# Altium footprint library LED-XTAL.PCBLIB: 105 footprints (part 6 of 7)
Each footprint in its own frame and in the unit in brackets; x right, y up, seen from the top. Pads: shape width x height; smd on the part's side, far side on the other; paste and mask are expansions set on the pad; w line width, h text height; cw(c..) or ccw(c..) is an arc to the next point about the centre after c.
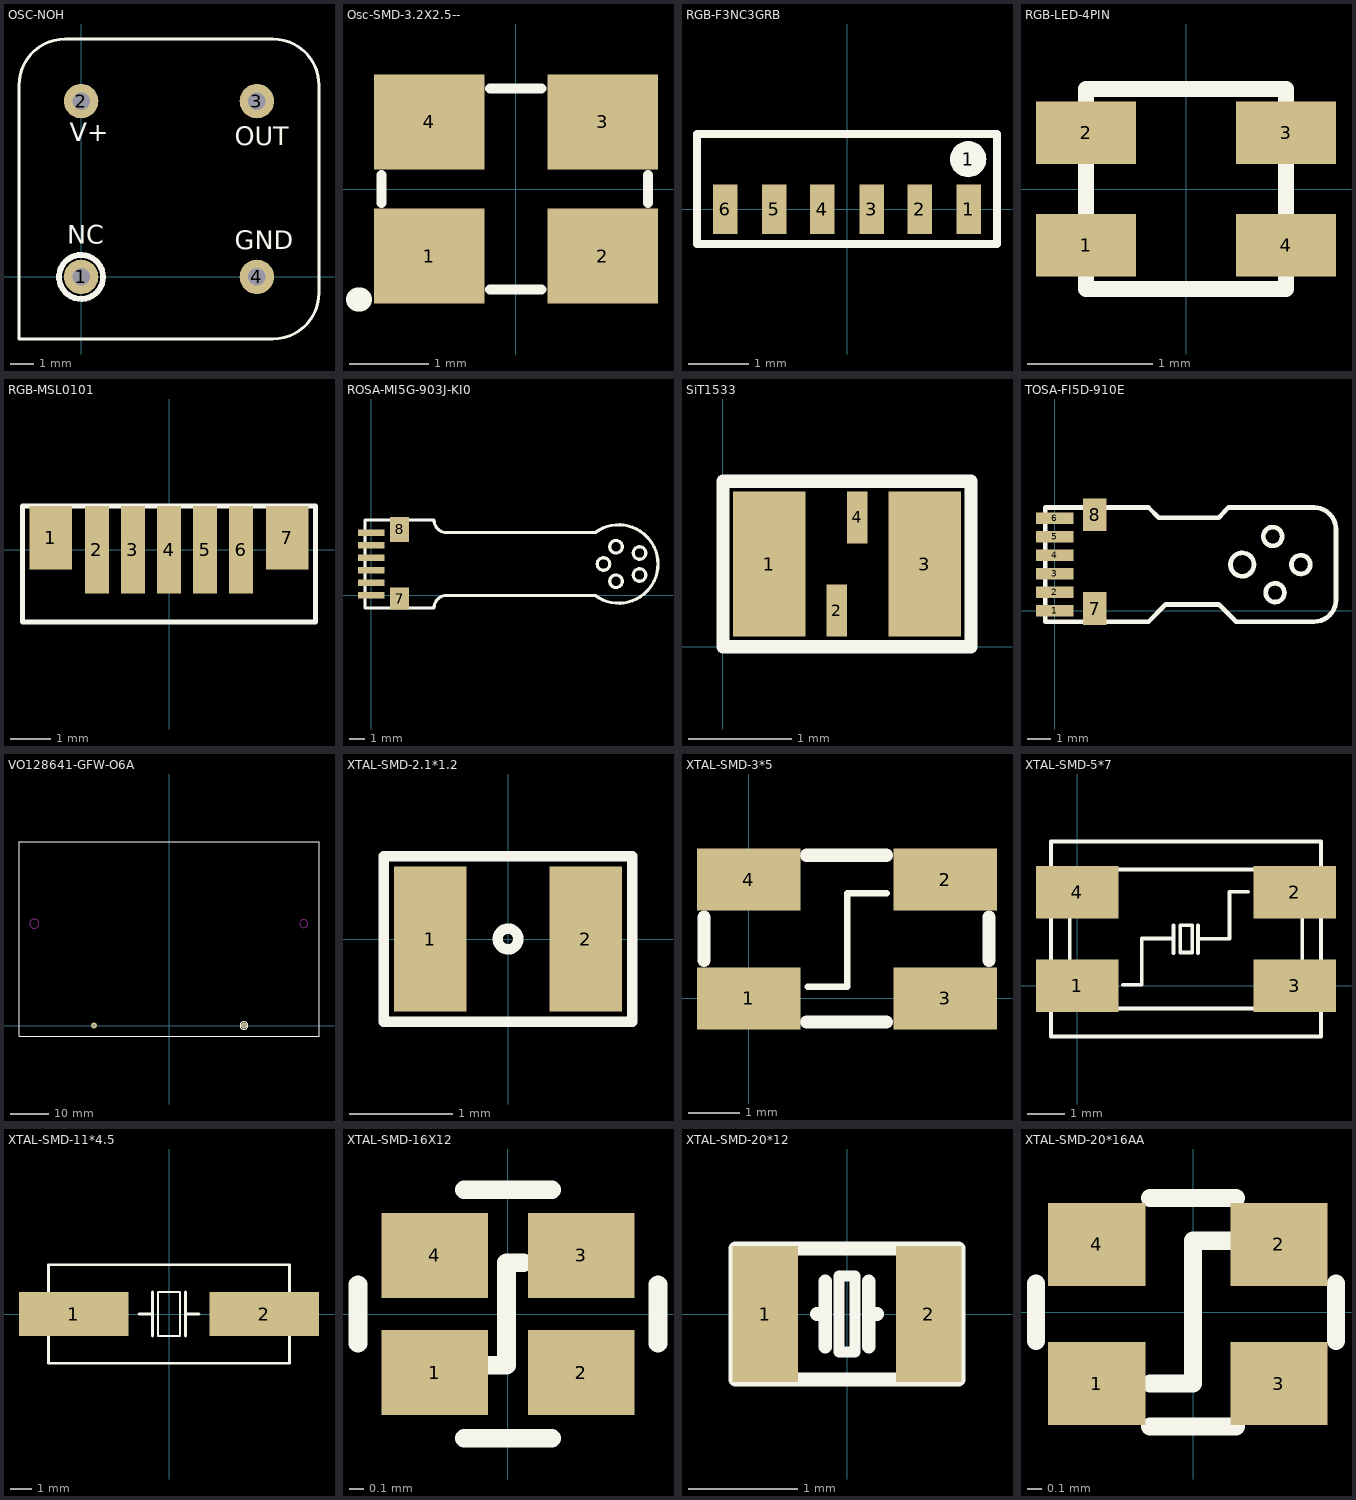
[diagram p5: the footprints below, top view; thin cyan lines are the x and y axes]

## OSC-NOH [mm]
pads (4):
  round 1.5 hole 0.762: 1(0,0) 2(0,7.62) 3(7.62,7.62) 4(7.62,0)
TopOverlay:
  circle w0.254: c0,0 r0.954
  lines w0.127: -2.69,-2.69 -2.69,8.31 cw(c-0.69,8.31) -0.69,10.31 8.31,10.31 cw(c8.31,8.31) 10.31,8.31 10.31,-0.69 cw(c8.31,-0.69) 8.31,-2.69 -2.69,-2.69
  text "V+" at -0.49,5.885 h0.8
  text "NC" at -0.59,1.435 h0.8
  text "GND" at 6.66,1.21 h0.8
  text "OUT" at 6.66,5.71 h0.8

## Osc-SMD-3.2X2.5-- [mm] "Osc-SMD-3.2X2.5--"
pads (4):
  rect 1.4x1.2 smd: 1(-1.1,-0.85) 2(1.1,-0.85) 3(1.1,0.85) 4(-1.1,0.85)
TopOverlay:
  lines w0.127: -1.7,-0.175 -1.7,0.175 ; -0.325,-1.275 0.325,-1.275 ; -0.325,1.275 0.325,1.275 ; 1.675,-0.175 1.675,0.175
  lines w0.3: -2,-1.4 -1.975,-1.4

## RGB-F3NC3GRB [mm] "RGB-F3NC3GRB"
pads (7):
  round 0.6 on Top Overlay: 1(2,0.825)
  rect 0.4x0.82 smd: 1(2.01,0) 2(1.2,0) 3(0.41,0) 4(-0.41,0) 5(-1.2,0) 6(-2.01,0)
TopOverlay:
  lines w0.127: -2.475,-0.575 -2.475,1.24 2.475,1.24 2.475,-0.575 -2.475,-0.575

## RGB-LED-4PIN [mm] "RGB-LED-4PIN"
pads (4):
  rect 0.8x0.5 smd: 1(-0.8,-0.45) 2(-0.8,0.45) 3(0.8,0.45) 4(0.8,-0.45)
TopOverlay:
  lines w0.127: -0.8,-0.8 -0.8,0.8 0.8,0.8 0.8,-0.8 -0.8,-0.8

## RGB-MSL0101 [mm] "RGB-MSL0101"
pads (7):
  rect 1.06x1.58 smd: 1(-2.95,0.3) 7(2.95,0.3)
  rect 0.6x2.18 smd: 2(-1.8,0) 3(-0.9,0) 4(0,0) 5(0.9,0) 6(1.8,0)
TopOverlay:
  lines w0.127: -3.65,-1.8 -3.65,1.1 3.65,1.1 3.65,-1.8 -3.65,-1.8

## ROSA-MI5G-903J-KI0 [mm]
pads (8):
  rect 1.7x0.4 smd: 1(0,0) 2(0,0.8) 3(0,1.6) 4(0,2.4) 5(0,3.2) 6(0,4)
  rect 1.2x1.4 smd: 7(1.8,-0.2)
  rect 1.2x1.6 smd: 8(1.8,4.2)
TopOverlay:
  circle w0.2: c15.6,3.1 r0.4
  circle w0.2: c17.1,1.3 r0.4
  circle w0.2: c17.1,2.7 r0.4
  circle w0.2: c15.6,0.9 r0.4
  circle w0.2: c14.8,2 r0.4
  lines w0.2: 14.292,-0.011 ccw(c15.778,2) 14.292,4.011 ; 14.3,0 4.8,0 ccw(c4.8,-0.8) 4,-0.8 -0.4,-0.8 -0.4,4.8 4,4.8 ccw(c4.8,4.8) 4.8,4 14.3,4

## SiT1533 [mm] "SiT1533"
pads (4):
  rect 0.7x1.4 smd: 1(0.45,0.8) 3(1.95,0.8)
  rect 0.2x0.5 smd: 2(1.1,0.35) 4(1.3,1.25)
TopOverlay:
  lines w0.127: 0,0 0,1.6 2.4,1.6 2.4,0 0,0

## TOSA-FI5D-910E [mm]
pads (8):
  rect 1.6x0.5 smd: 1(0,0) 2(0,0.79) 3(0,1.58) 4(0,2.37) 5(0,3.16) 6(0,3.95)
  rect 1x1.4 smd: 7(1.7,0.1) 8(1.7,4.1)
TopOverlay:
  circle w0.2: c9.3,3.175 r0.4
  circle w0.2: c9.4,0.775 r0.4
  circle w0.2: c8,1.975 r0.5
  circle w0.2: c10.5,1.975 r0.4
  lines w0.2: -0.4,-0.46 4,-0.46 4.735,0.275 7,0.275 7.735,-0.46 11,-0.46 11.065,-0.46 ccw(c11.065,0.475) 12,0.475 12,3.475 ccw(c11.065,3.475) 11.065,4.41 11,4.41 7.4,4.41 7,3.975 4.435,3.975 4,4.41 -0.4,4.41 -0.4,-0.46

## VO128641-GFW-O6A [mm]
pads (2):
  round 1.5 hole 0.8: 1(19.5,0) 2(-19.5,0)
TopOverlay:
  circle w0.254: c19.5,0 r1
  lines w0.127: -39,-2.75 39,-2.75 39,47.75 -39,47.75 -39,-2.75
KeepOutLayer:
  circle w0.127: c-35,26.5 r1.2
  circle w0.127: c35,26.5 r1.03

## XTAL-SMD-2.1*1.2 [mm] "XTAL-SMD-2.1*1.2"
pads (2):
  rect 0.7x1.4 smd: 1(-0.75,0) 2(0.75,0)
TopOverlay:
  circle w0.1: c0,0 r0.1
  lines w0.1: -1.2,-0.8 1.2,-0.8 1.2,0.8 -1.2,0.8 -1.2,-0.8

## XTAL-SMD-3*5 [mm]
pads (4):
  rect 2x1.2 smd: 1(0,0) 2(3.8,2.3) 3(3.8,0) 4(0,2.3)
TopOverlay:
  lines w0.128: 1.143,0.229 1.905,0.229 1.905,2.032 2.667,2.032
  lines w0.254: -0.864,0.737 -0.864,1.575 ; 1.118,-0.457 2.667,-0.457 ; 1.118,2.769 2.667,2.769 ; 4.648,0.737 4.648,1.575

## XTAL-SMD-5*7 [mm]
pads (4):
  rect 2.2x1.4 smd: 1(0,0) 2(5.8,2.5) 3(5.8,0) 4(0,2.5)
TopOverlay:
  lines w0.1: 1.219,0.029 1.717,0.029 1.717,1.265 2.558,1.265 ; 2.569,0.877 2.569,1.608 ; 3.211,1.253 4.063,1.253 4.063,2.507 4.557,2.507 ; 3.222,0.877 3.222,1.608 ; -0.7,-1.35 6.5,-1.35 6.5,3.85 -0.7,3.85 -0.7,-1.35 ; -0.2,-0.6 -0.2,3.1 6,3.1 6,-0.6 -0.2,-0.6 ; 2.746,0.888 2.746,1.619 3.067,1.619 3.067,0.888 2.746,0.888

## XTAL-SMD-11*4.5 [mm] "XTAL-SMD-11*4.5"
pads (2):
  rect 5x2 smd: 1(-4.35,0) 2(4.35,0)
TopOverlay:
  lines w0.1: -0.5,-1 0.5,-1 0.5,1 -0.5,1 -0.5,-1
  lines w0.127: -1.375,0 -0.75,0 ; -0.75,-1 -0.75,1 ; 0.75,-1 0.75,1 ; 0.75,0 1.375,0 ; -5.5,-2.25 5.5,-2.25 5.5,2.25 -5.5,2.25 -5.5,-2.25

## XTAL-SMD-16X12 [mm] "XTAL-SMD-16X12"
pads (4):
  rect 0.73x0.58 smd: 1(-0.5,-0.4) 2(0.5,-0.4) 3(0.5,0.4) 4(-0.5,0.4)
TopOverlay:
  lines w0.127: -1.025,-0.2 -1.025,0.2 ; -0.3,-0.85 0.3,-0.85 ; -0.3,0.85 0.3,0.85 ; -0.145,-0.35 -0.01,-0.35 -0.01,0.35 0.105,0.35 ; 1.025,-0.2 1.025,0.2

## XTAL-SMD-20*12 [mm] "XTAL-SMD-20*12"
pads (2):
  rect 0.6x1.25 smd: 1(-0.75,0) 2(0.75,0)
TopOverlay:
  lines w0.1: -0.075,-0.35 0.075,-0.35 0.075,0.35 -0.075,0.35 -0.075,-0.35
  lines w0.127: -0.275,0 -0.2,0 ; -0.2,-0.3 -0.2,0.3 ; 0.2,-0.3 0.2,0.3 ; 0.2,0 0.275,0 ; -1.025,-0.6 -1.025,0.6 1.025,0.6 1.025,-0.6 -1.025,-0.6

## XTAL-SMD-20*16AA [mm] "XTAL-SMD-20*16AA"
pads (4):
  rect 0.68x0.58 smd: 1(-0.675,-0.5) 2(0.6,0.475) 3(0.6,-0.5) 4(-0.675,0.475)
TopOverlay:
  lines w0.127: -1.1,-0.2 -1.1,-0.1 -1.1,0.1 -1.1,0.2 ; -0.3,-0.8 0.3,-0.8 ; -0.3,-0.5 0,-0.5 0,0.5 0.3,0.5 ; -0.3,0.8 0.3,0.8 ; 1,-0.2 1,0.2